# EAGLE library part LM358 (library texas-instruments)
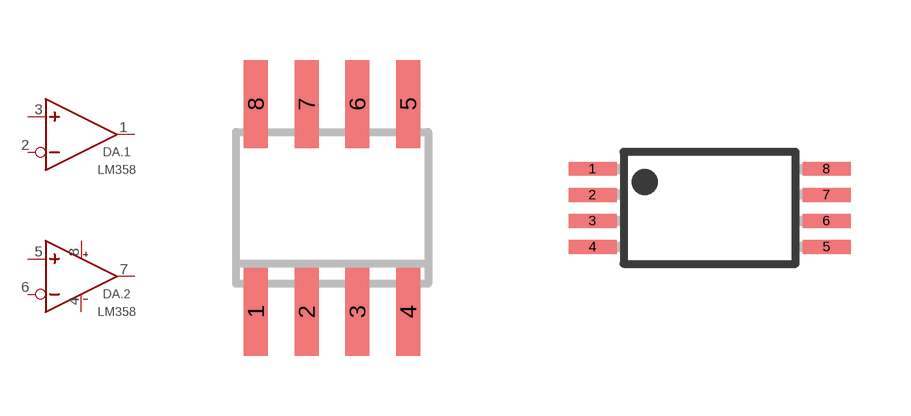
[diagram p15: symbol with the pads of SOIC8; footprints SOIC8, TSSOP8]

Designator prefix DA; gates .1=OPERATIONAL_AMPLIFIER .2=OPERATIONAL_AMPLIFIER G$3=OPERATIONAL_AMPLIFIER_POWER

## LM358ADR  [SOIC8]
1  .1:OUT  out
2  .1:IN-  in
3  .1:IN+  in
4  G$3:VCC-  pwr
5  .2:IN+  in
6  .2:IN-  in
7  .2:OUT  out
8  G$3:VCC+  pwr

## LM358ADRG4  [SOIC8]
Pads as for SOIC8

## LM358PWR  [TSSOP8]
Pads as for SOIC8

## LM358PWRG4  [TSSOP8]
Pads as for SOIC8

## LM358DR  [SOIC8]
Pads as for SOIC8

## LM358DRG3  [SOIC8]
Pads as for SOIC8

## LM358DRG4  [SOIC8]
Pads as for SOIC8

## LM358PSR  [SO08]
Pads as for SOIC8

## LM358PWRG3  [TSSOP8]
Pads as for SOIC8

## Footprint SOIC8 (pad centres in mm)
Small Outline IC
smd 0.6 x 2.2: 1 -1.905,-2.6; 2 -0.635,-2.6; 3 0.635,-2.6; 4 1.905,-2.6; 5 1.905,2.6; 6 0.635,2.6; 7 -0.635,2.6; 8 -1.905,2.6

## Footprint TSSOP8 (pad centres in mm)
Plastic Small Outline
smd 1.2 x 0.35: 1 -2.925,0.975; 2 -2.925,0.325; 3 -2.925,-0.325; 4 -2.925,-0.975; 5 2.925,-0.975; 6 2.925,-0.325; 7 2.925,0.325; 8 2.925,0.975

## Footprint SO08 (pad centres in mm)
SMALL OUTLINE INTEGRATED CIRCUIT body 3.9 mm/JEDEC MS-012AA
smd 0.6 x 2.2: 1 -1.905,-2.6; 2 -0.635,-2.6; 3 0.635,-2.6; 4 1.905,-2.6; 5 1.905,2.6; 6 0.635,2.6; 7 -0.635,2.6; 8 -1.905,2.6